# Altium footprint library Copy of YakupTrkn.PcbLib: 8 footprints
Each footprint in its own frame and in the unit in brackets; x right, y up, seen from the top. Pads: shape width x height; smd on the part's side, far side on the other; paste and mask are expansions set on the pad; w line width, h text height; cw(c..) or ccw(c..) is an arc to the next point about the centre after c.
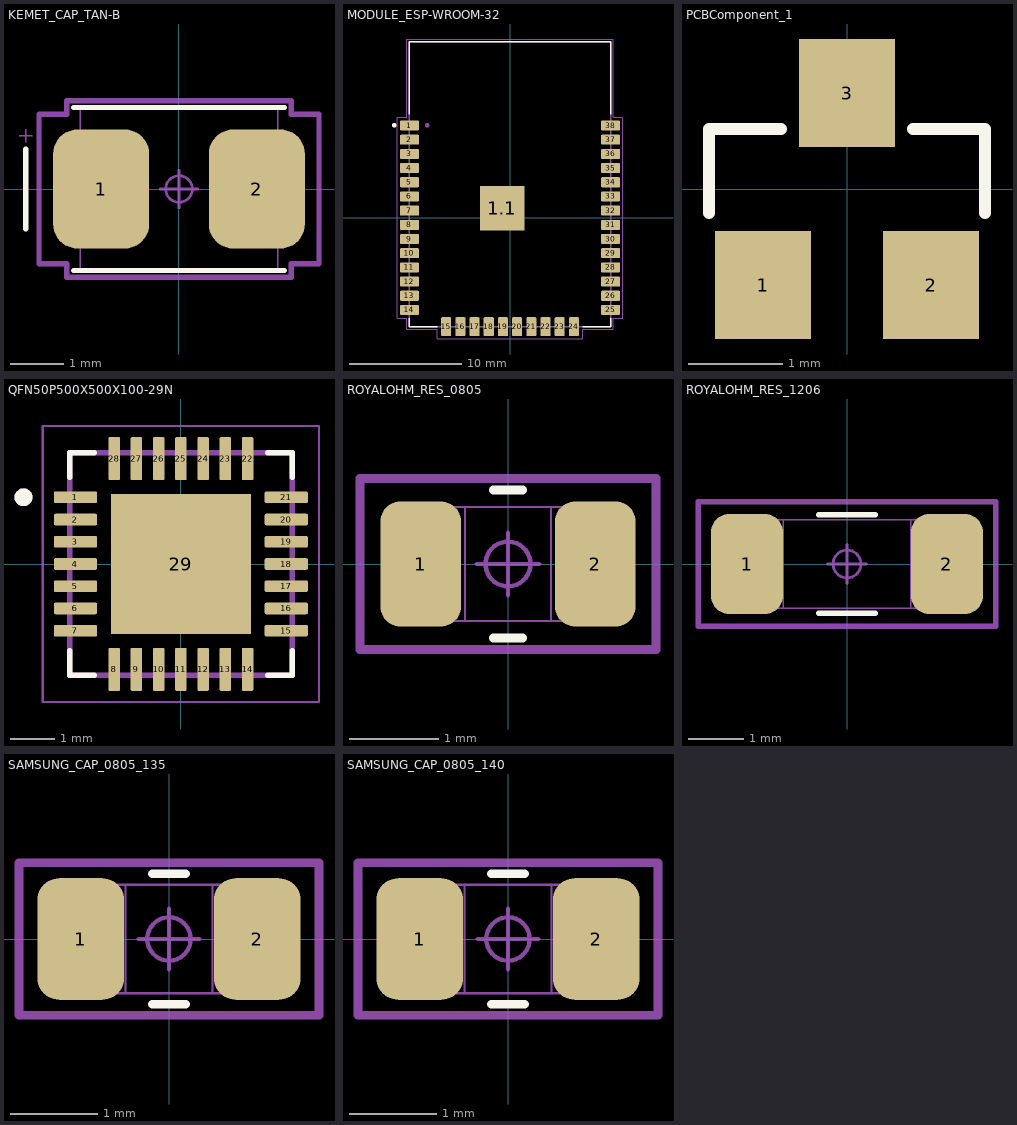
[diagram p0: the footprints below, top view; thin cyan lines are the x and y axes]

## KEMET_CAP_TAN-B [mm]
pads (2):
  rrect50% 1.8x2.23 smd paste+0 mask+0.04: 1(-1.46,0) 2(1.46,0)
Top Overlay:
  lines w0.1: -2.875,-0.75 -2.875,0.75 ; -1.977,-1.527 1.977,-1.527 ; -1.977,1.527 1.977,1.527
Mechanical 13:
  lines w0.025: -3,1 -2.75,1 ; -2.875,0.875 -2.875,1.125 ; -1.85,-1 -0.875,-1 -0.875,1 -1.85,1 ; 1.85,-1 0.875,-1 0.875,1 1.85,1 ; -1.85,-1.525 -1.85,1.525 1.85,1.525 1.85,-1.525 -1.85,-1.525
Mechanical 15:
  circle w0.05: c0,0 r0.25
  lines w0.05: -0.35,0 0.35,0 ; 0,-0.35 0,0.35
  lines w0.1: -2.625,-1.404 -2.104,-1.404 -2.104,-1.654 2.104,-1.654 2.104,-1.404 2.625,-1.404 2.625,1.404 2.104,1.404 2.104,1.654 -2.104,1.654 -2.104,1.404 -2.625,1.404 -2.625,-1.404
3D body "T495B106K025ATE750.step": height 2.1, standoff 0, extent -1.85,-1.5 1.85,1.5

## MODULE_ESP-WROOM-32 [mm]
pads (39):
  rrect22% 1.7x0.9 smd: 1(-9,8.255) 2(-9,6.985) 3(-9,5.715) 4(-9,4.445) 5(-9,3.175) 6(-9,1.905) 7(-9,0.635) 8(-9,-0.635) 9(-9,-1.905) 10(-9,-3.175) 11(-9,-4.445) 12(-9,-5.715) 13(-9,-6.985) 14(-9,-8.255) 25(9,-8.255) 26(9,-6.985) 27(9,-5.715) 28(9,-4.445) 29(9,-3.175) 30(9,-1.905) 31(9,-0.635) 32(9,0.635) 33(9,1.905) 34(9,3.175) 35(9,4.445) 36(9,5.715) 37(9,6.985) 38(9,8.255)
  rect 4x4 smd: 1.1(-0.7,0.845)
  rrect22% 0.9x1.7 smd: 15(-5.715,-9.755) 16(-4.445,-9.755) 17(-3.175,-9.755) 18(-1.905,-9.755) 19(-0.635,-9.755) 20(0.635,-9.755) 21(1.905,-9.755) 22(3.175,-9.755) 23(4.445,-9.755) 24(5.715,-9.755)
Top Overlay:
  circle w0.2: c-10.365,8.275 r0.1
  lines w0.127: -9,-9 -9,-9.75 -6.5,-9.75 ; -9,9.25 -9,15.75 9,15.75 9,9.25 ; 6.5,-9.75 9,-9.75 9,-9
Mechanical 13:
  circle w0.2: c-7.425,8.275 r0.1
  lines w0.127: -9,-9.755 -9,15.745 9,15.745 9,-9.755 -9,-9.755
Mechanical 15:
  lines w0.05: -10.1,-9 -10.1,9 -9.25,9 -9.25,16 9.25,16 9.25,9 10.1,9 10.1,-9 9.25,-9 9.25,-10 6.5,-10 6.5,-10.855 -6.5,-10.855 -6.5,-10 -9.25,-10 -9.25,-9 -10.1,-9
3D body "step_temp.STEP": height 3.25, standoff 0, extent -9,-12.75 9,12.75

## PCBComponent_1 [mil]
pads (3):
  rect 40x45 smd: 1(-35,-40) 2(35,-40) 3(0,40)
Top Overlay:
  lines w5: -57.5,-10 -57.5,25 -27.5,25 ; 27.5,25 57.5,25 57.5,-10
3D body "step_temp.STEP": height 55.12, standoff 0, extent -57.09,-51.18 57.09,51.18

## QFN50P500X500X100-29N [mm]
pads (29):
  rrect25% 0.97x0.26 smd: 1(-2.37,1.5) 2(-2.37,1) 3(-2.37,0.5) 4(-2.37,0) 5(-2.37,-0.5) 6(-2.37,-1) 7(-2.37,-1.5) 15(2.37,-1.5) 16(2.37,-1) 17(2.37,-0.5) 18(2.37,0) 19(2.37,0.5) 20(2.37,1) 21(2.37,1.5)
  rrect25% 0.26x0.97 smd: 8(-1.5,-2.37) 9(-1,-2.37) 10(-0.5,-2.37) 11(0,-2.37) 12(0.5,-2.37) 13(1,-2.37) 14(1.5,-2.37) 22(1.5,2.37) 23(1,2.37) 24(0.5,2.37) 25(0,2.37) 26(-0.5,2.37) 27(-1,2.37) 28(-1.5,2.37)
  rect 3.15x3.15 smd paste-575: 29(0,0)
Top Overlay:
  circle w0.2: c-3.54,1.5 r0.1
  lines w0.127: -2.5,-1.95 -2.5,-2.5 -1.95,-2.5 ; -2.5,1.95 -2.5,2.5 -1.95,2.5 ; 1.95,-2.5 2.5,-2.5 2.5,-1.95 ; 1.95,2.5 2.5,2.5 2.5,1.95
Mechanical 13:
  circle w0.2: c-3.54,1.5 r0.1
  lines w0.127: -2.5,-2.5 2.5,-2.5 2.5,2.5 -2.5,2.5 -2.5,-2.5
Mechanical 15:
  lines w0.05: -3.105,-3.105 3.105,-3.105 3.105,3.105 -3.105,3.105 -3.105,-3.105
3D body "step_temp.STEP": height 1, standoff 0, extent -2.5,-2.5 2.5,2.5

## ROYALOHM_RES_0805 [mm]
pads (2):
  rrect50% 0.9x1.397 smd paste+0 mask+0.04: 1(-0.975,0) 2(0.975,0)
Top Overlay:
  lines w0.1: -0.162,-0.826 0.162,-0.826 ; -0.162,0.826 0.162,0.826
Mechanical 13:
  lines w0.025: -0.48,-0.635 -0.48,0.635 ; 0.48,-0.635 0.48,0.635 ; -1.016,-0.635 1.016,-0.635 1.016,0.635 -1.016,0.635 -1.016,-0.635
Mechanical 15:
  circle w0.05: c0,0 r0.25
  lines w0.05: -0.35,0 0.35,0 ; 0,-0.35 0,0.35
  lines w0.1: -1.65,-0.953 -1.65,0.953 1.65,0.953 1.65,-0.953 -1.65,-0.953
3D body "RES 0805.STEP": height 0.6, standoff 0, extent -1,-0.625 1,0.625

## ROYALOHM_RES_1206 [mm]
pads (2):
  rrect50% 1.3x1.8 smd paste+0 mask+0.04: 1(-1.8,0) 2(1.8,0)
Top Overlay:
  lines w0.1: -0.508,-0.889 0.508,-0.889 ; -0.508,0.889 0.508,0.889
Mechanical 13:
  lines w0.025: -1.15,-0.8 -1.15,0.8 ; 1.15,-0.8 1.15,0.8 ; -1.6,-0.8 1.6,-0.8 1.6,0.8 -1.6,0.8 -1.6,-0.8
Mechanical 15:
  circle w0.05: c0,0 r0.25
  lines w0.05: -0.35,0 0.35,0 ; 0,-0.35 0,0.35
  lines w0.1: -2.675,-1.118 -2.675,1.118 2.675,1.118 2.675,-1.118 -2.675,-1.118
3D body "RES 1206.STEP": height 0.6, standoff 0, extent -1.6,-0.8 1.6,0.8

## SAMSUNG_CAP_0805_135 [mm]
pads (2):
  rrect50% 1x1.4 smd paste+0 mask+0.04: 1(-1.016,0) 2(1.016,0)
Top Overlay:
  lines w0.1: -0.192,-0.752 0.192,-0.752 ; -0.192,0.752 0.192,0.752
Mechanical 13:
  lines w0.025: -1,-0.625 -1,0.625 ; -1,-0.625 -0.5,-0.625 -0.5,0.625 -1,0.625 ; -1,-0.625 1,-0.625 ; -1,-0.625 -1,0.625 ; -1,0.625 1,0.625 ; 1,-0.625 0.5,-0.625 0.5,0.625 1,0.625 ; 1,-0.625 1,0.625 ; 1,-0.625 1,0.625
Mechanical 15:
  circle w0.05: c0,0 r0.25
  lines w0.05: -0.35,0 0.35,0 ; 0,-0.35 0,0.35
  lines w0.1: -1.727,-0.879 -1.727,0.879 1.727,0.879 1.727,-0.879 -1.727,-0.879
3D body "CAP_0805_135.step": height 1.36, standoff -0.01, extent -1,-0.639 1,0.635

## SAMSUNG_CAP_0805_140 [mm]
pads (2):
  rrect50% 1x1.4 smd paste+0 mask+0.04: 1(-1.016,0) 2(1.016,0)
Top Overlay:
  lines w0.1: -0.192,-0.752 0.192,-0.752 ; -0.192,0.752 0.192,0.752
Mechanical 13:
  lines w0.025: -1,-0.625 -1,0.625 ; -1,-0.625 1,-0.625 ; -1,-0.625 -0.5,-0.625 -0.5,0.625 -1,0.625 ; -1,-0.625 -1,0.625 ; -1,0.625 1,0.625 ; 1,-0.625 1,0.625 ; 1,-0.625 1,0.625 ; 1,-0.625 0.5,-0.625 0.5,0.625 1,0.625
Mechanical 15:
  circle w0.05: c0,0 r0.25
  lines w0.05: -0.35,0 0.35,0 ; 0,-0.35 0,0.35
  lines w0.1: -1.727,-0.879 1.727,-0.879 1.727,0.879 -1.727,0.879 -1.727,-0.879
3D body "CAP_0805_140.step": height 1.41, standoff -0.01, extent -1,-0.639 1,0.635